# EAGLE library part DMG6602SVT-7 (library SamacSys_Parts)
Diodes Inc DMG6602SVT-7 Dual N/P-channel MOSFET Transistor, 6-Pin TSOT-26 Source: Datasheet <https://componentsearchengine.com/Datasheets/1/DMG6602SVT-7.pdf>
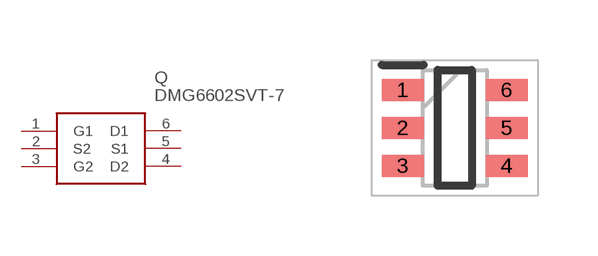
[diagram p1: symbol with the pads of SOT95P280X90-6N; footprint SOT95P280X90-6N]

Designator prefix Q

## DMG6602SVT-7 (ARROW_PART_NUMBER: DMG6602SVT-7; ARROW_PRICE/STOCK: https://www.arrow.com/en/products/dmg6602svt-7/diodes-incorporated; DESCRIPTION: Diodes Inc DMG6602SVT-7 Dual N/P-channel MOSFET Transistor, 6-Pin TSOT-26; HEIGHT: 0.9mm; MANUFACTURER_NAME: Diodes Inc.; MANUFACTURER_PART_NUMBER: DMG6602SVT-7; RS_PART_NUMBER: 8222532P; RS_PRICE/STOCK: http://uk.rs-online.com/web/p/products/8222532P)  [SOT95P280X90-6N]
1  G1
2  S2
3  G2
4  D2
5  S1
6  D1

## Footprint SOT95P280X90-6N (pad centres in mm)
TSOT26
smd 1.05 x 0.55: 1 -1.3,0.95; 2 -1.3,0; 3 -1.3,-0.95; 4 1.3,-0.95; 5 1.3,0; 6 1.3,0.95